# EAGLE library part B7P-VH (library con-jst)
VH Connector - 0.156"
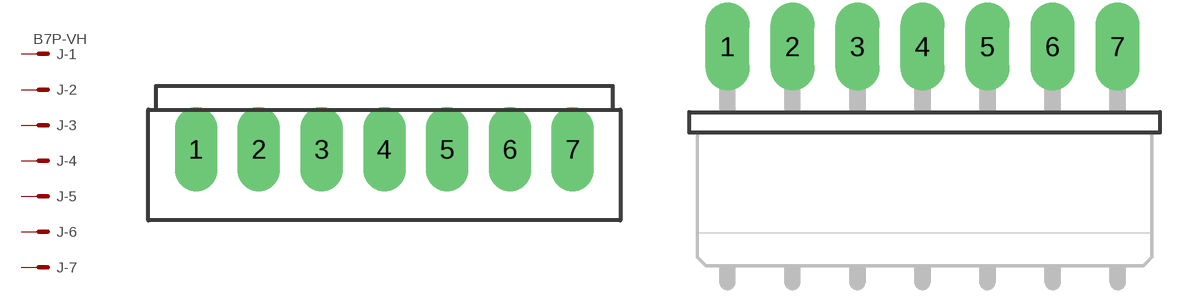
[diagram p42: symbol with the pads of B7P; footprints B7P, B7PS]

Designator prefix J; gates -1=KV -2=K -3=K -4=K -5=K -6=K -7=K

## B7P-VH  [B7P]
1  -1:S  pas
2  -2:S  pas
3  -3:S  pas
4  -4:S  pas
5  -5:S  pas
6  -6:S  pas
7  -7:S  pas

## B7P-VHS  [B7PS]
Pads as for B7P

## Footprint B7P (pad centres in mm)
VH Series - 0.156" Pitch
drill 1.778 long: 1 -11.887,0; 2 -7.925,0; 3 -3.962,0; 4 0,0; 5 3.962,0; 6 7.925,0; 7 11.887,0

## Footprint B7PS (pad centres in mm)
VH Series - 0.156" Pitch - right angle
drill 1.778 long: 1 -11.887,0; 2 -7.925,0; 3 -3.962,0; 4 0,0; 5 3.962,0; 6 7.925,0; 7 11.887,0